# Altium schematic symbol library DriveAndPower.SchLib: 1 symbol
Pins are listed as number, name and electrical type; pins without a type are passive.

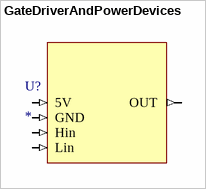
[diagram p0: symbol GateDriverAndPowerDevices]

## GateDriverAndPowerDevices
designator U?
pins: 5V (in), GND (in), Hin (in), Lin (in), OUT (out)